# Altium schematic symbol library B02.SchLib: 2 symbols
Pins are listed as number, name and electrical type; pins without a type are passive.

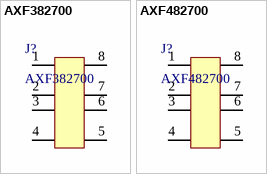
[diagram p0: symbols AXF382700 to AXF482700]

## AXF382700
designator J?
松下连接器 0.7高度8PIN 5A/0.3A
footprint AXF382700
pins: 1, 2, 3, 4, 5, 6, 7, 8

## AXF482700
designator J?
松下连接器 0.7高度8PIN 5A/0.3A
footprint AXF482700
pins: 1, 2, 3, 4, 5, 6, 7, 8